# EAGLE library part TLP280_4 (library rfdi)
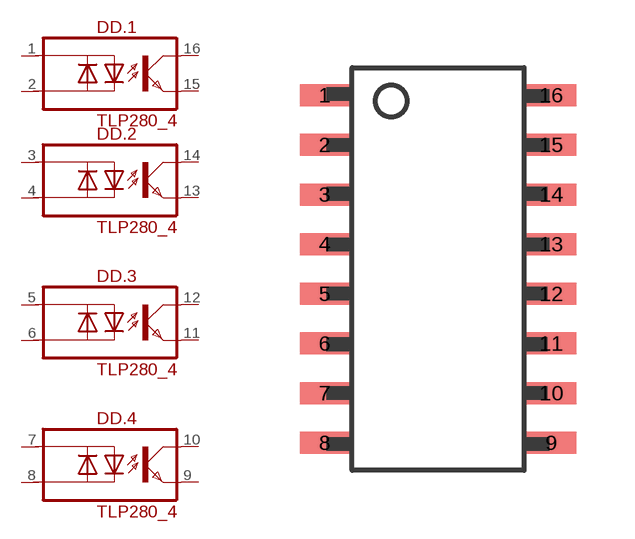
[diagram p1: symbol with the pads of TLP280_4; footprint TLP280_4]

Designator prefix DD; gates .1=OPTO-OK_AC .2=OPTO-OK_AC .3=OPTO-OK_AC .4=OPTO-OK_AC

## TLP280_4  [TLP280_4]
1  .1:A  pas
2  .1:C  pas
3  .2:A  pas
4  .2:C  pas
5  .3:A  pas
6  .3:C  pas
7  .4:A  pas
8  .4:C  pas
9  .4:EMIT  pas
10  .4:COL  pas
11  .3:EMIT  pas
12  .3:COL  pas
13  .2:EMIT  pas
14  .2:COL  pas
15  .1:EMIT  pas
16  .1:COL  pas

## Footprint TLP280_4 (pad centres in mm)
smd 1.27 x 0.564: 1 -2.9,4.445; 2 -2.9,3.175; 3 -2.9,1.905; 4 -2.9,0.635; 5 -2.9,-0.635; 6 -2.9,-1.905; 7 -2.9,-3.175; 8 -2.9,-4.445; 9 2.9,-4.445; 10 2.9,-3.175; 11 2.9,-1.905; 12 2.9,-0.635; 13 2.9,0.635; 14 2.9,1.905; 15 2.9,3.175; 16 2.9,4.445